# EAGLE library part PIN_HEADER_MALE_1X06_06P (library 180118 Library by matsu)
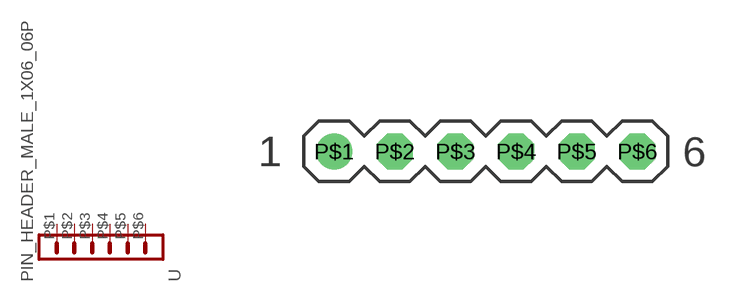
[diagram p24: symbol with the pads of PIN_HEADER_MALE_1X06_06P; footprint PIN_HEADER_MALE_1X06_06P]

Designator prefix -

## PIN_HEADER_MALE_1X06_06P  [PIN_HEADER_MALE_1X06_06P]
P$1  1
P$2  2
P$3  3
P$4  4
P$5  5
P$6  6

## Footprint PIN_HEADER_MALE_1X06_06P (pad centres in mm)
drill 1: P$1 -6.35,0
drill 1 octagon: P$2 -3.81,0; P$3 -1.27,0; P$4 1.27,0; P$5 3.81,0; P$6 6.35,0